# EAGLE library part MTCH101 (library MMC Eagle)
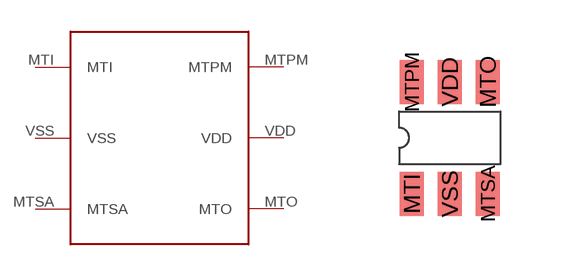
[diagram p9: symbol with the pads of MTCH101; footprint MTCH101]

Designator prefix -

## MTCH101  [MTCH101]
MTI  MTI
MTO  MTO
MTPM  MTPM
MTSA  MTSA
VDD  VDD
VSS  VSS

## Footprint MTCH101 (pad centres in mm)
smd 0.6 x 1.1: MTI -0.95,-1.4; MTO 0.95,1.4; MTPM -0.95,1.4; MTSA 0.95,-1.4; VDD 0,1.4; VSS 0,-1.4